# Altium footprint library Pcb_Comunes_SMD.PcbLib: 20 footprints (part 2 of 2)
Each footprint in its own frame and in the unit in brackets; x right, y up, seen from the top. Pads: shape width x height; smd on the part's side, far side on the other; paste and mask are expansions set on the pad; w line width, h text height; cw(c..) or ccw(c..) is an arc to the next point about the centre after c.
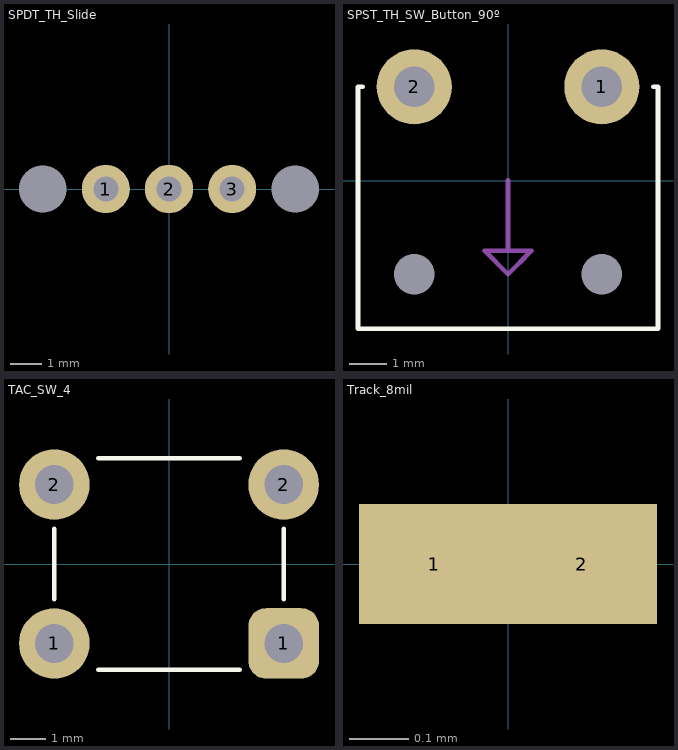
[diagram p1: the footprints below, top view; thin cyan lines are the x and y axes]

## SPDT_TH_Slide [mil]
pads (5):
  round 60 hole 31: 1(-78.74,0) 2(0,0) 3(78.74,0)
  round 0 hole 59 unplated: 4(157.48,0) 5(-157.48,0)

## SPST_TH_SW_Button_90º [mil]
pads (4):
  round 80 hole 43: 1(100,100) 2(-100,100)
  round 0 hole 43: 3(100,-100)
  round 0 hole 43 unplated: 4(-100,-100)
Top Overlay:
  lines w5: -155,100 -160,100 -160,-158 160,-158 160,100 155,100
Mechanical 16:
  lines w5: 0,-75 0,0 ; 12.5,-87.5 25,-75 ; 25,-75 0,-100 -25,-75 25,-75

## TAC_SW_4 [mm] "TAC SWITCH de 4"
pads (4):
  round 2 hole 1.1: 1(-3.25,-2.25) 2(-3.25,2.25) 2(3.25,2.25)
  rrect50% 2x2 hole 1.1: 1(3.25,-2.25)
Top Overlay:
  lines w0.127: -3.25,-1 -3.25,1 ; -2,-3 2,-3 ; -2,3 2,3 ; 3.25,-1 3.25,1
3D body "Tactile switch 6x6x5mm.step": height 5.01, standoff -3.51, extent -3.871,-3.015 3.872,3.015

## Track_8mil [mm] "Track 8 mils"
height 0.85
pads (2):
  rect 0.255x0.203 smd paste+0 mask+0: 1(-0.125,0)
  rect 0.255x0.203 smd mask+0: 2(0.125,0)